# EAGLE library part MIC5014 (library ModernDevicebak2)
MIC 5014 High or Low Side MOSFET Driver With integrated charge pump and oscillator SOIC package 576-1233-1-ND
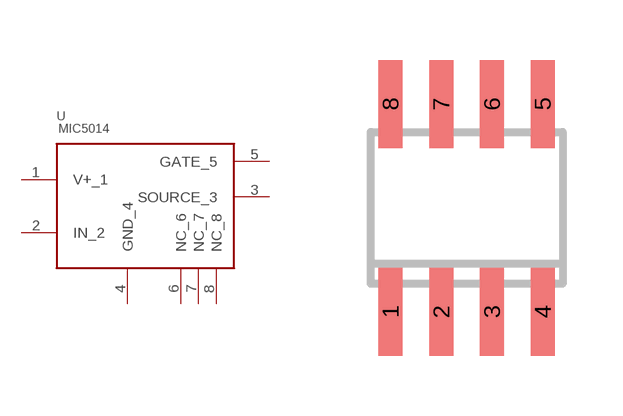
[diagram p40: symbol with the pads of SO8; footprint SO8]

Designator prefix -

## MIC5014SO8  [SO8]
1  V+_1
2  IN_2
3  SOURCE_3
4  GND_4
5  GATE_5
6  NC_6
7  NC_7
8  NC_8

## Footprint SO8 (pad centres in mm)
8-Lead Small Outline IC (SO-8) Source: http://www.analog.com/UploadedFiles/Data_Sheets/703465986AD8611_2_0.pdf
smd 0.6 x 2.2: 1 -1.905,-2.6; 2 -0.635,-2.6; 3 0.635,-2.6; 4 1.905,-2.6; 5 1.905,2.6; 6 0.635,2.6; 7 -0.635,2.6; 8 -1.905,2.6